# Altium schematic symbol library TBU-CAXXX-XXX-WH.Schlib: 1 symbol
Pins are listed as number, name and electrical type; pins without a type are passive.

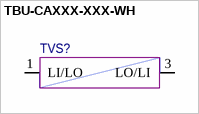
[diagram p0: symbol TBU-CAXXX-XXX-WH]

## TBU-CAXXX-XXX-WH
designator TVS?  (value not drawn)
Bidirectional High-Speed Overcurrent Protector.
pins: 1 LI/LO, 3 LO/LI